# Altium schematic symbol library .NS.Schlib: 1 symbol
Pins are listed as number, name and electrical type; pins without a type are passive.

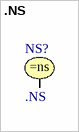
[diagram p0: symbol .NS]

## .NS
designator NS?
Node Set
pins: 1